# Altium schematic symbol library QUTMS_FFCConnectors.SchLib: 6 symbols
Pins are listed as number, name and electrical type; pins without a type are passive.

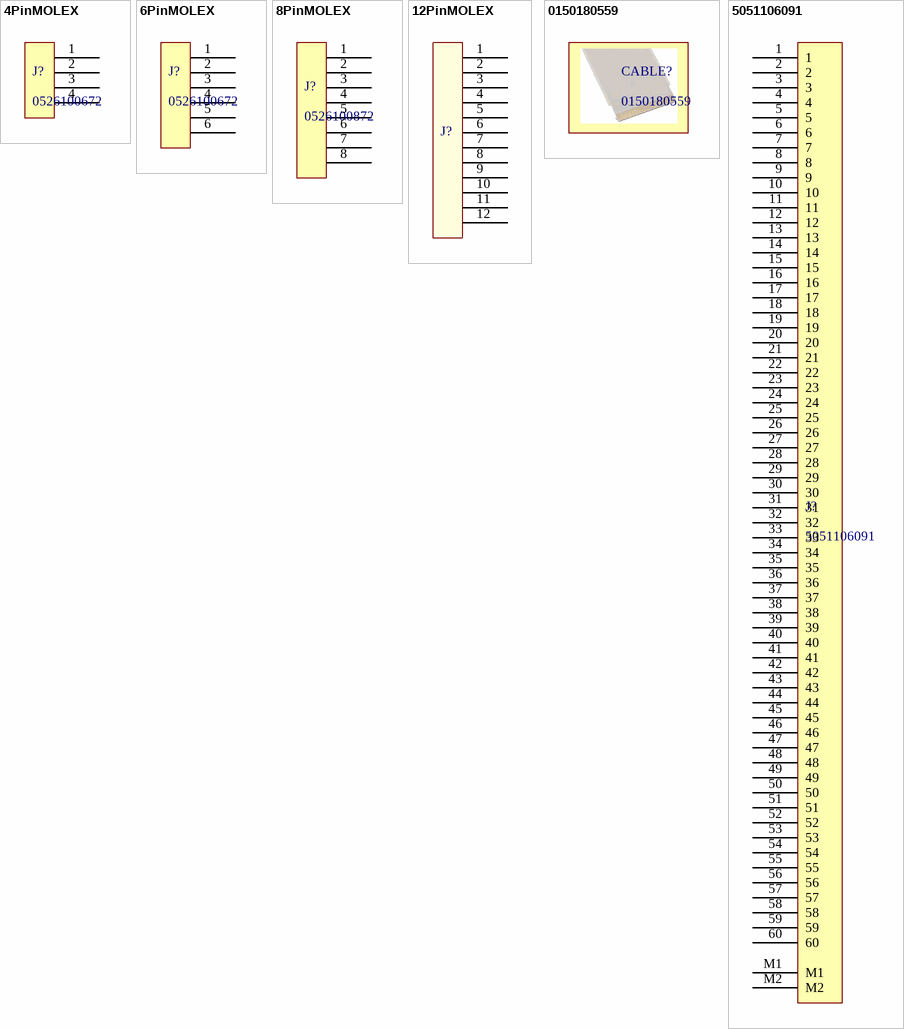
[diagram p0: symbols 4PinMOLEX to 5051106091]

## 4PinMOLEX
designator J?, comment 0526100672
footprint 526100672 (Easy-On FFC/FPC Connector, 1.00mm Pitch, Slider Series, Vertical, 5.75mm Height, 6 Circuits, Gold Plating)
pins: 1 0, 2 1, 3 2, 4 3

## 6PinMOLEX
designator J?, comment 0526100672
footprint 522710679 (Easy-On FFC/FPC Connector, 1.00mm Pitch, Slider Series, Right-Angle, Bottom Contact, 3.00mm Height, 6 Circuits, Tin-Bismuth Plating)
footprint 526100672 (Easy-On FFC/FPC Connector, 1.00mm Pitch, Slider Series, Vertical, 5.75mm Height, 6 Circuits, Gold Plating)
pins: 1 0, 2 1, 3 2, 4 3, 5 4, 6 5

## 8PinMOLEX
designator J?, comment 0526100872
footprint 522710879 (Easy-On FFC/FPC Connector, 1.00mm Pitch, Slider Series, Right-Angle, Bottom Contact, 3.00mm Height, 6 Circuits, Tin-Bismuth Plating)
footprint 526100872 (Easy-On FFC/FPC Connector, 1.00mm Pitch, Slider Series, Vertical, 5.75mm Height, 6 Circuits, Gold Plating)
pins: 1 0, 2 1, 3 2, 4 3, 5 4, 6 5, 7, 8

## 12PinMOLEX
designator J?
footprint 526101272 (Easy-On FFC/FPC Connector, 1.00mm Pitch, Slider Series, Vertical, 5.75mm Height, 12 Circuits, Gold Plating)
pins: 1, 2, 3, 4, 5, 6, 7, 8, 9, 10, 11, 12

## 0150180559
designator CABLE?
60 Position FFC, FPC Cable 0.020" (0.50mm) 2.000" (50.80mm)

## 5051106091
designator J?
60 Position FFC, FPC Connector Contacts, Bottom 0.020" (0.50mm) Surface Mount, Right Angle
footprint 5051106091
pins: 1, 2, 3, 4, 5, 6, 7, 8, 9, 10, 11, 12, 13, 14, 15, 16, 17, 18, 19, 20, 21, 22, 23, 24, 25, 26, 27, 28, 29, 30, 31, 32, 33, 34, 35, 36, 37, 38, 39, 40, 41, 42, 43, 44, 45, 46, 47, 48, 49, 50, 51, 52, 53, 54, 55, 56, 57, 58, 59, 60, M1, M2